# EAGLE library part MC14052BCPG (library on-semiconductor-01)
Multiplexers/Demultiplexers
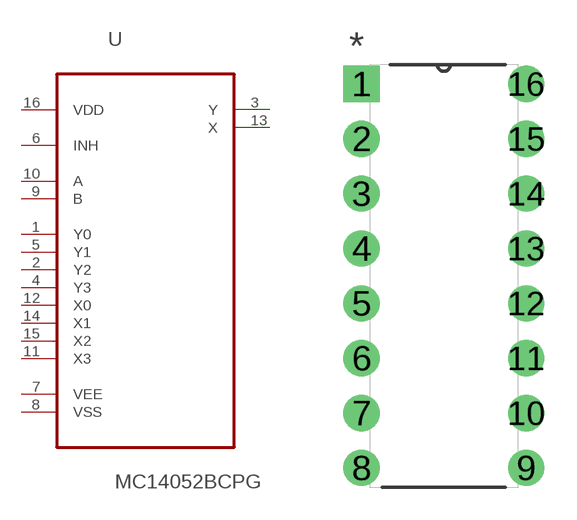
[diagram p243: symbol with the pads of DIP254P762X444-16; footprint DIP254P762X444-16]

Designator prefix U

## MC14052BCPG (MPN: MC14052BCPG; OC_FARNELL: 9665692; OC_NEWARK: 98H0653; PACKAGE: PDIP-16; SUPPLIER: On semiconductors)  [DIP254P762X444-16]
1  Y0  in
2  Y2  in
3  Y  out
4  Y3  in
5  Y1  in
6  INH  pas
7  VEE  pwr
8  VSS  pwr
9  B  in
10  A  in
11  X3  in
12  X0  in
13  X  out
14  X1  in
15  X2  in
16  VDD  pwr

## Footprint DIP254P762X444-16 (pad centres in mm)
drill 1.118 square: 1 -7.62,17.78
drill 1.118: 2 -7.62,15.24; 3 -7.62,12.7; 4 -7.62,10.16; 5 -7.62,7.62; 6 -7.62,5.08; 7 -7.62,2.54; 8 -7.62,0; 9 0,0; 10 0,2.54; 11 0,5.08; 12 0,7.62; 13 0,10.16; 14 0,12.7; 15 0,15.24; 16 0,17.78